# Altium footprint library TSAL_REV1_footprint.PcbLib: 16 footprints
Each footprint in its own frame and in the unit in brackets; x right, y up, seen from the top. Pads: shape width x height; smd on the part's side, far side on the other; paste and mask are expansions set on the pad; w line width, h text height; cw(c..) or ccw(c..) is an arc to the next point about the centre after c.
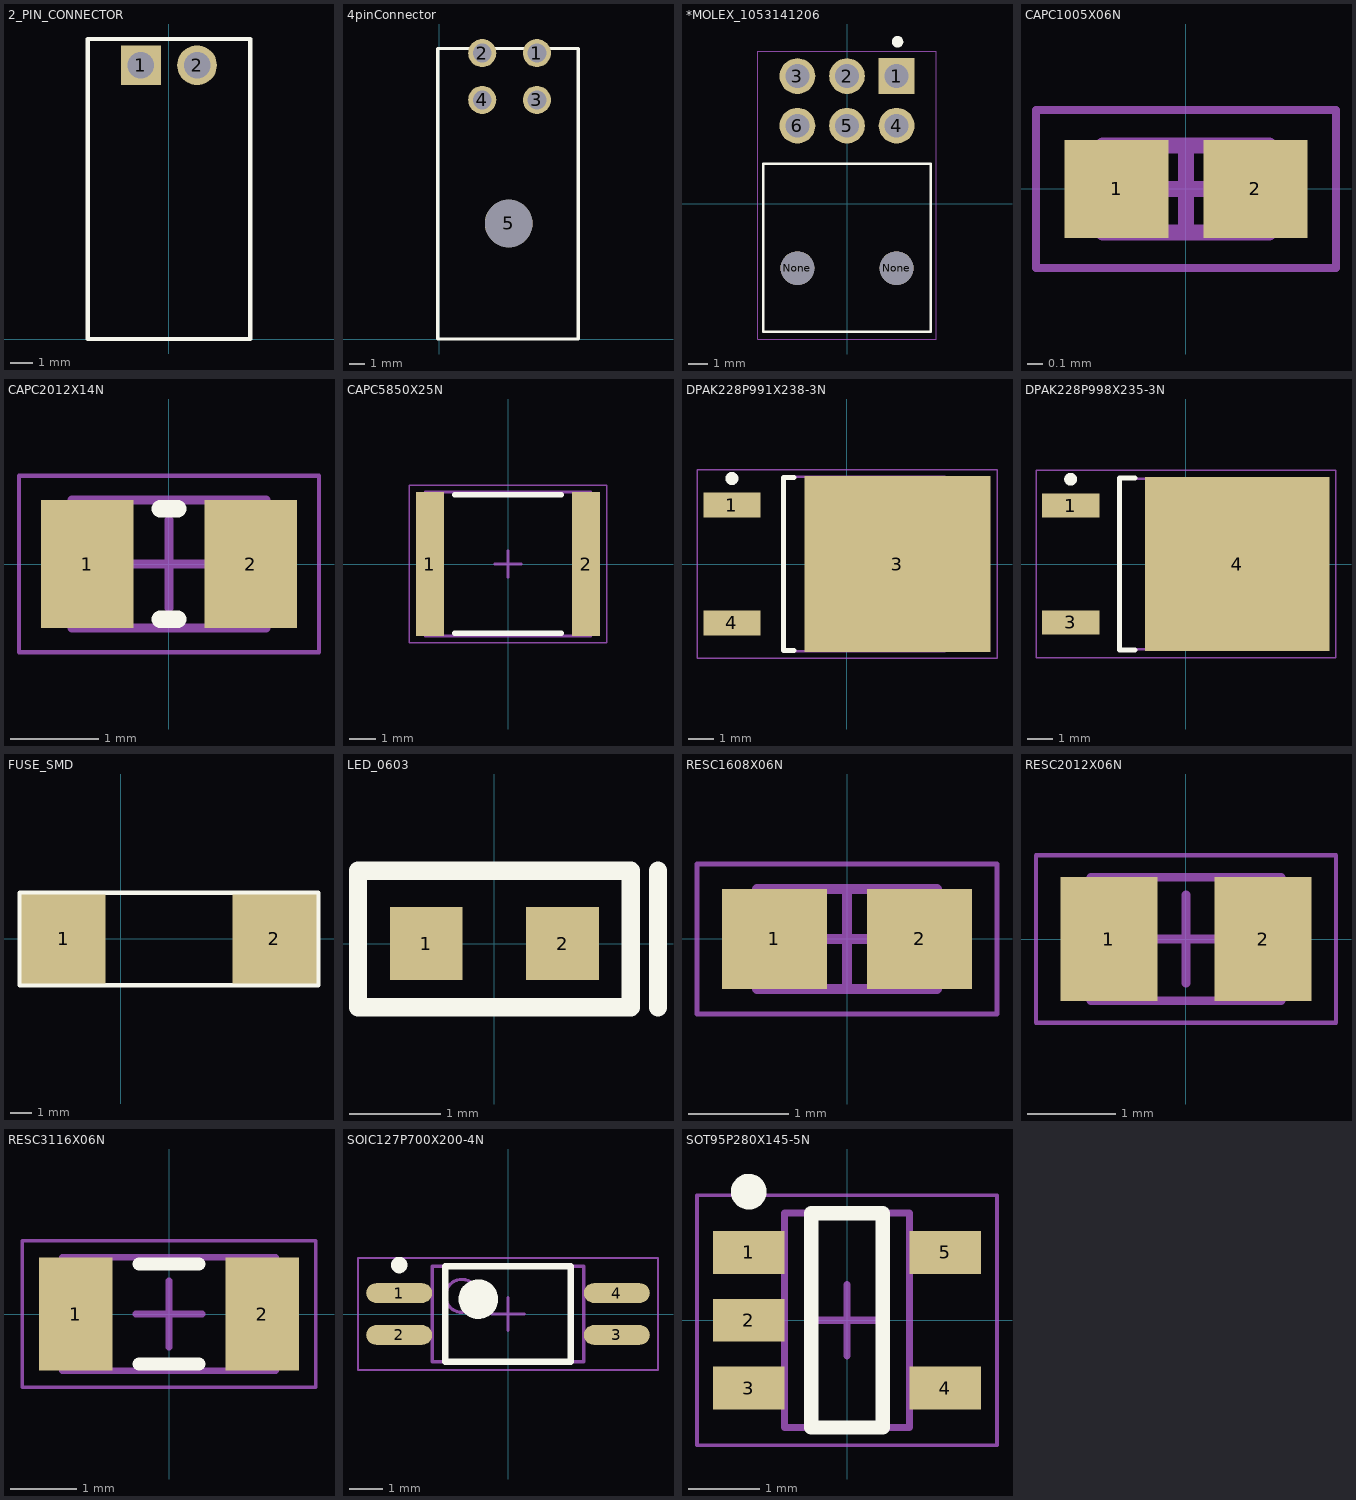
[diagram p0: the footprints below, top view; thin cyan lines are the x and y axes]

## 2_PIN_CONNECTOR [mm]
height 2
pads (2):
  rect 1.8x1.8 hole 1.2: 1(-1.27,12.4)
  round 1.8 hole 1.2: 2(1.27,12.4)
Top Overlay:
  lines w0.2: -3.683,0 3.683,0 3.683,13.589 -3.683,13.589 -3.683,0
3D body "705530001.stp": height 8.06, standoff -2.22, extent -3.683,0 3.683,13.589

## 4pinConnector [mm]
height 4
pads (5):
  round 1.8 hole 1.2 unplated: 1(6.25,18.31) 2(2.75,18.31) 3(6.25,15.31) 4(2.75,15.31)
  round 3.05 hole 3.05 unplated: 5(4.445,7.4)
Top Overlay:
  lines w0.2: -0.1,0 -0.1,18.6 8.9,18.6 8.9,0 -0.1,0
3D body "1723161104.stp": height 13.28, standoff -3.47, extent -0.055,-0.053 8.945,18.625

## *MOLEX_1053141206 [mm]
pads (8):
  rect 1.8x1.8 hole 1.2: 1(2.5,6.44)
  round 1.8 hole 1.2: 2(0,6.44) 3(-2.5,6.44) 4(2.5,3.94) 5(0,3.94) 6(-2.5,3.94)
  round 1.7 hole 1.7 unplated: None(-2.5,-3.24) None(2.5,-3.24)
Top Overlay:
  circle w0.3: c2.547,8.17 r0.14
  lines w0.127: -4.22,-6.44 4.22,-6.44 4.22,2.02 -4.22,2.02 -4.22,-6.44
Mechanical 16:
  lines w0.05: -4.5,-6.81 4.5,-6.81 4.5,7.69 -4.5,7.69 -4.5,-6.81
3D body: height 7.8, standoff -10.88, extent 0,0 0,0
3D body "1053141206.stp": height 7.85, standoff -4.49, extent -4.32,-7.79 4.12,6.868

## CAPC1005X06N [mm] "Chip Capacitor, 2-Leads, Body 1.00x0.50mm, IPC Medium Density"
height 0.55
pads (2):
  rect 0.66x0.62 smd: 1(-0.44,0) 2(0.44,0)
Mechanical 13:
  lines w0.1: -0.525,-0.275 -0.525,0.275 0.525,0.275 0.525,-0.275 -0.525,-0.275
Mechanical 15:
  lines w0.05: -0.95,-0.5 -0.95,0.5 0.95,0.5 0.95,-0.5 -0.95,-0.5
  lines w0.1: -0.275,0 0.275,0 ; 0,-0.275 0,0.275
3D body "CAPC1005X06N.step": height 0.55, standoff 0, extent -0.525,-0.275 0.525,0.275

## CAPC2012X14N [mm] "Chip Capacitor, 2-Leads, Body 2.00x1.25mm, IPC Medium Density"
height 1.4
pads (2):
  rect 1.05x1.45 smd: 1(-0.925,0) 2(0.925,0)
Top Overlay:
  lines w0.2: -0.1,-0.625 0.1,-0.625 ; -0.1,0.625 0.1,0.625
Mechanical 13:
  lines w0.1: -1.1,-0.725 -1.1,0.725 1.1,0.725 1.1,-0.725 -1.1,-0.725
Mechanical 15:
  lines w0.05: -1.7,-1 -1.7,1 1.7,1 1.7,-1 -1.7,-1
  lines w0.1: -0.5,0 0.5,0 ; 0,-0.5 0,0.5
3D body "CAPC2012X14N.step": height 1.4, standoff 0, extent -1.1,-0.725 1.1,0.725

## CAPC5850X25N [mm] "Chip Capacitor, 2-Leads, Body 5.75x5.00mm, IPC Medium Density"
height 2.5
pads (2):
  rect 1.05x5.4 smd: 1(-2.925,0) 2(2.925,0)
Top Overlay:
  lines w0.2: -2,-2.6 2,-2.6 ; -2,2.6 2,2.6
Mechanical 13:
  lines w0.1: -3.1,-2.7 -3.1,2.7 3.1,2.7 3.1,-2.7 -3.1,-2.7
Mechanical 15:
  lines w0.05: -3.7,-2.95 -3.7,2.95 3.7,2.95 3.7,-2.95 -3.7,-2.95
  lines w0.1: -0.5,0 0.5,0 ; 0,-0.5 0,0.5
3D body "CAPC5850X25N.step": height 2.5, standoff 0, extent -3.1,-2.7 3.1,2.7

## DPAK228P991X238-3N [mm] "D-PAK, 3-Pads, Body 6.21x6.73mm (max), IPC Medium Density"
height 2.38
pads (3):
  rect 2.2x0.95 smd: 1(-4.45,2.28) 4(-4.45,-2.28)
  rect 7.2x6.8 smd: 3(1.95,0)
Top Overlay:
  circle w0.25: c-4.45,3.305 r0.125
  lines w0.2: -2.05,-3.35 -2.45,-3.35 -2.45,3.35 -2.05,3.35
Mechanical 13:
  lines w0.1: -2.45,-3.375 -2.45,3.375 3.77,3.375 3.77,-3.375 -2.45,-3.375
Mechanical 15:
  lines w0.05: -5.8,-3.65 -5.8,3.65 5.8,3.65 5.8,-3.65 -5.8,-3.65
  lines w0.1: -0.5,0 0.5,0 ; 0,-0.5 0,0.5
3D body "DPAK228P991X238-3N.step": height 2.38, standoff 0, extent -4.6,-3.375 5.305,3.375

## DPAK228P998X235-3N [mm] "D-PAK, 3-Pads, Body 6.31x6.69mm (max), IPC Medium Density"
height 2.35
pads (3):
  rect 2.25x0.95 smd: 1(-4.5,2.28) 3(-4.5,-2.28)
  rect 7.2x6.8 smd: 4(2,0)
Top Overlay:
  circle w0.25: c-4.5,3.305 r0.125
  lines w0.2: -2,-3.35 -2.6,-3.35 -2.6,3.35 -2,3.35
Mechanical 13:
  lines w0.1: -2.6,-3.325 3.82,-3.325 3.82,3.325 -2.6,3.325 -2.6,-3.325
Mechanical 15:
  lines w0.05: -5.85,-3.65 5.85,-3.65 5.85,3.65 -5.85,3.65 -5.85,-3.65
  lines w0.1: -0.5,0 0.5,0 ; 0,-0.5 0,0.5
3D body "DPAK228P998X235-3N.step": height 2.45, standoff 0, extent -4.625,-3.325 5.355,3.325

## FUSE_SMD [mm]
pads (2):
  rect 3.81x4.06 smd: 1(-2.6,0) 2(7,0)
Top Overlay:
  lines w0.2: -4.6,-2.1 -4.6,2.1 9,2.1 9,-2.1 -4.6,-2.1

## LED_0603 [mm]
pads (2):
  rect 0.8x0.8 smd: 1(-0.75,0) 2(0.75,0)
Top Overlay:
  lines w0.2: 1.8,-0.7 1.8,0.8 ; -1.5,-0.7 1.5,-0.7 1.5,0.8 -1.5,0.8 -1.5,-0.7

## PCBComponent_1 - duplicate [mm]

## RESC1608X06N [mm] "Chip Resistor, 2-Leads, Body 1.60x0.80mm, IPC Medium Density"
height 0.55
pads (2):
  rect 1.05x1 smd: 1(-0.725,0) 2(0.725,0)
Mechanical 13:
  lines w0.1: -0.9,-0.5 -0.9,0.5 0.9,0.5 0.9,-0.5 -0.9,-0.5
Mechanical 15:
  lines w0.05: -1.5,-0.75 -1.5,0.75 1.5,0.75 1.5,-0.75 -1.5,-0.75
  lines w0.1: -0.5,0 0.5,0 ; 0,-0.5 0,0.5
3D body "RESC1608X06N.step": height 0.55, standoff 0, extent -0.9,-0.5 0.9,0.5

## RESC2012X06N [mm] "Chip Resistor, 2-Leads, Body 2.00x1.25mm, IPC Medium Density"
height 0.6
pads (2):
  rect 1.1x1.4 smd: 1(-0.875,0) 2(0.875,0)
Mechanical 13:
  lines w0.1: -1.075,-0.7 1.075,-0.7 1.075,0.7 -1.075,0.7 -1.075,-0.7
Mechanical 15:
  lines w0.05: -1.7,-0.95 1.7,-0.95 1.7,0.95 -1.7,0.95 -1.7,-0.95
  lines w0.1: -0.5,0 0.5,0 ; 0,-0.5 0,0.5
3D body "RESC2012X06N.step": height 0.6, standoff 0, extent -1.075,-0.7 1.075,0.7

## RESC3116X06N [mm] "Chip Resistor, 2-Leads, Body 3.10x1.60mm, IPC Medium Density"
height 0.65
pads (2):
  rect 1.1x1.7 smd: 1(-1.4,0) 2(1.4,0)
Top Overlay:
  lines w0.2: -0.45,-0.75 0.45,-0.75 ; -0.45,0.75 0.45,0.75
Mechanical 13:
  lines w0.1: -1.6,-0.85 -1.6,0.85 1.6,0.85 1.6,-0.85 -1.6,-0.85
Mechanical 15:
  lines w0.05: -2.2,-1.1 -2.2,1.1 2.2,1.1 2.2,-1.1 -2.2,-1.1
  lines w0.1: -0.5,0 0.5,0 ; 0,-0.5 0,0.5
3D body "RESC3116X06N.step": height 0.65, standoff 0, extent -1.6,-0.85 1.6,0.85

## SOIC127P700X200-4N [mm] "SOIC, 4-Leads, Body 2.70x4.40mm, Pitch 1.27mm, IPC Medium Density"
height 2
pads (4):
  oval 2x0.6 smd: 1(-3.3,0.635) 2(-3.3,-0.635) 3(3.3,-0.635) 4(3.3,0.635)
Top Overlay:
  circle w0.6: c-0.9,0.45 r0.3
  circle w0.25: c-3.3,1.485 r0.125
  lines w0.2: -1.9,-1.45 1.9,-1.45 1.9,1.45 -1.9,1.45 -1.9,-1.45
Mechanical 13:
  circle w0.1: c-1.4,0.55 r0.5
  lines w0.1: -2.3,-1.45 2.3,-1.45 2.3,1.45 -2.3,1.45 -2.3,-1.45
Mechanical 15:
  lines w0.05: -4.55,-1.7 4.55,-1.7 4.55,1.7 -4.55,1.7 -4.55,-1.7
  lines w0.1: -0.5,0 0.5,0 ; 0,-0.5 0,0.5
3D body: height 2, standoff 0.1, extent -2.3,-1.45 2.3,1.45

## SOT95P280X145-5N [mm] "SOT23, 5-Leads, Body 2.90x2.80mm, Pitch 0.95mm, IPC Medium Density"
height 1.45
pads (5):
  rect 1x0.6 smd: 1(-1.375,0.95) 2(-1.375,0) 3(-1.375,-0.95) 4(1.375,-0.95) 5(1.375,0.95)
Top Overlay:
  circle w0.25: c-1.375,1.8 r0.125
  lines w0.2: -0.5,-1.5 -0.5,1.5 0.5,1.5 0.5,-1.5 -0.5,-1.5
Mechanical 13:
  lines w0.1: -0.875,-1.5 0.875,-1.5 0.875,1.5 -0.875,1.5 -0.875,-1.5
Mechanical 15:
  lines w0.05: -2.1,-1.75 2.1,-1.75 2.1,1.75 -2.1,1.75 -2.1,-1.75
  lines w0.1: -0.5,0 0.5,0 ; 0,-0.5 0,0.5
3D body "SOT95P280X145-5N.step": height 1.45, standoff 0, extent -1.6,-1.5 1.6,1.5